# Altium footprint library qudong.PcbLib: 25 footprints (part 1 of 2)
Each footprint in its own frame and in the unit in brackets; x right, y up, seen from the top. Pads: shape width x height; smd on the part's side, far side on the other; paste and mask are expansions set on the pad; w line width, h text height; cw(c..) or ccw(c..) is an arc to the next point about the centre after c.
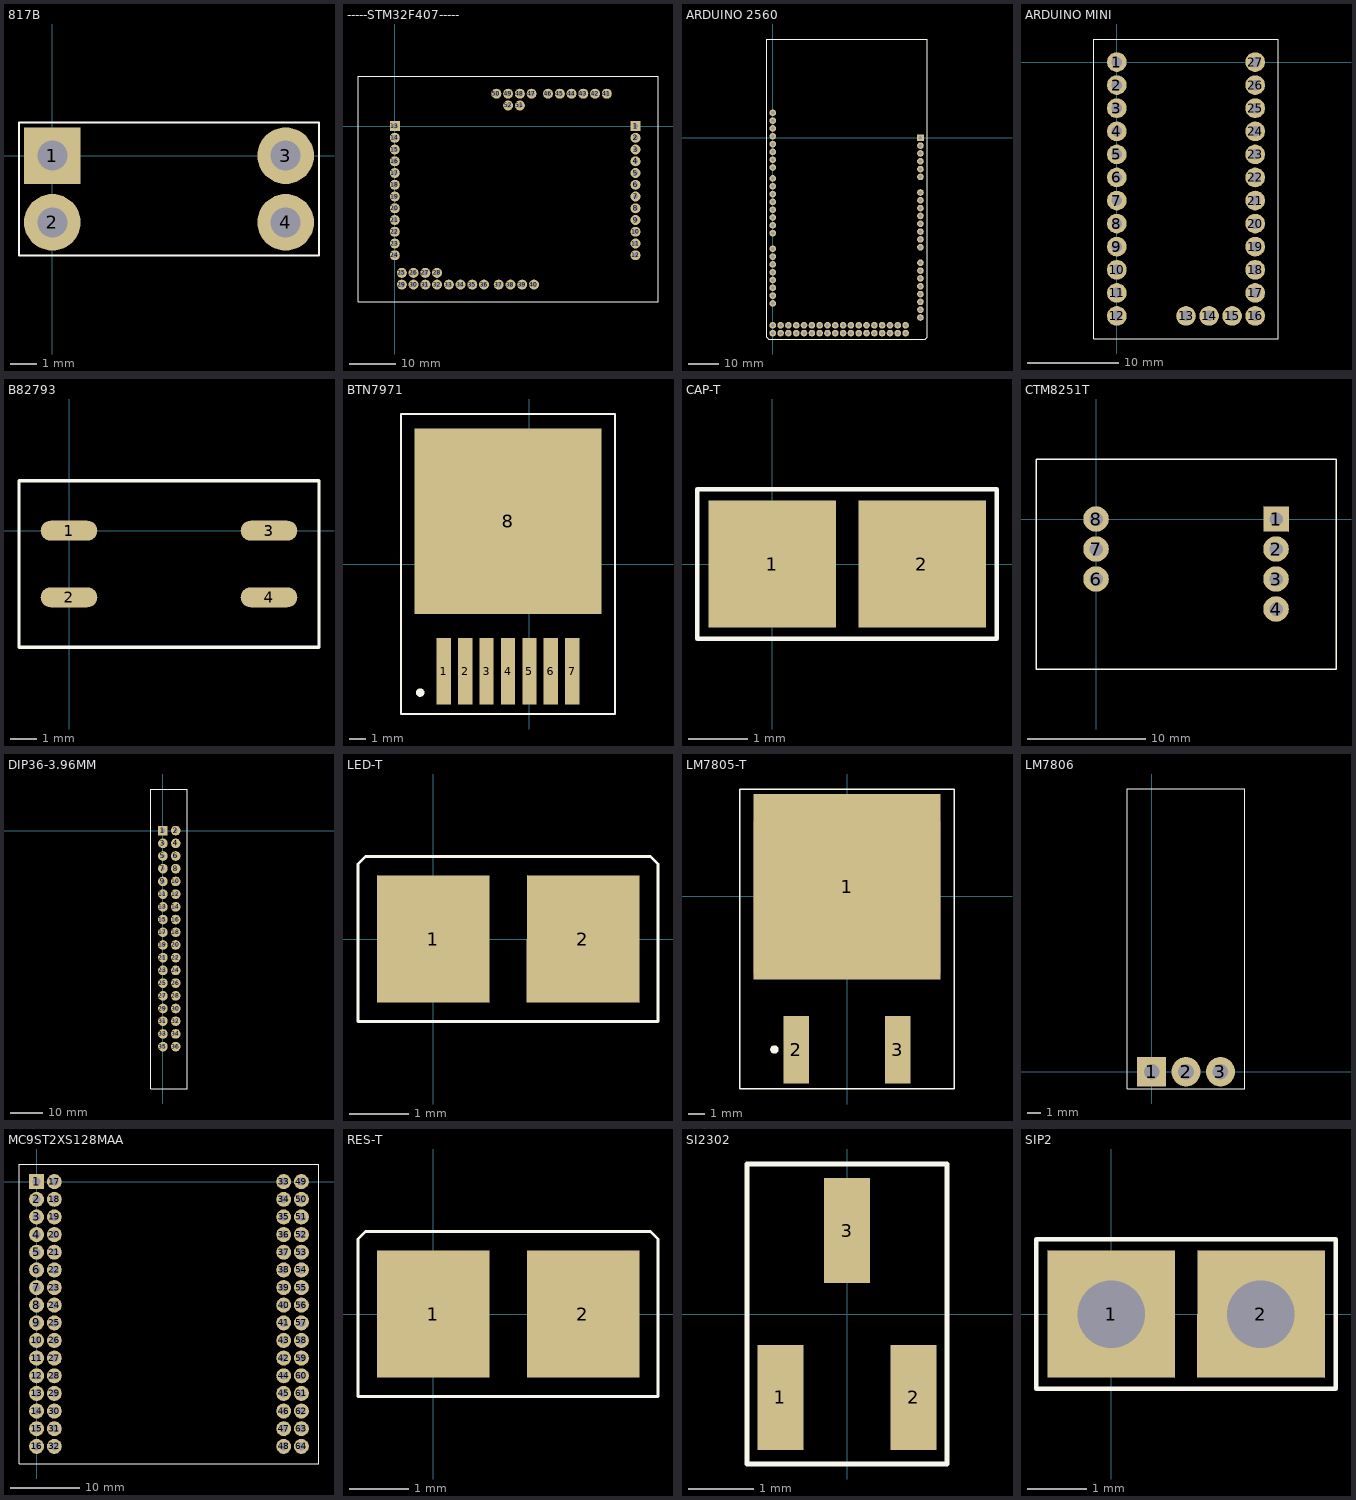
[diagram p0: the footprints below, top view; thin cyan lines are the x and y axes]

## 817B [mil]
pads (4):
  rect 85x85 hole 45: 1(0,0)
  round 85 hole 45: 2(0,-100) 3(350,0) 4(350,-100)
Top Overlay:
  lines w3: -50,-150 -50,50 400,50 400,-150 -50,-150

## -----STM32F407----- [mil]
pads (52):
  rect 85x85 hole 45: 1(2050,0) 13(0,0)
  round 85 hole 45: 2(2050,-100) 3(2050,-200) 4(2050,-300) 5(2050,-400) 6(2050,-500) 7(2050,-600) 8(2050,-700) 9(2050,-800) 10(2050,-900) 11(2050,-1000) 12(2050,-1100) 14(0,-100) 15(0,-200) 16(0,-300) 17(0,-400) 18(0,-500) 19(0,-600) 20(0,-700) 21(0,-800) 22(0,-900) 23(0,-1000) 24(0,-1100) 25(60,-1250) 26(160,-1250) 27(260,-1250) 28(360,-1250) 29(60,-1350) 30(160,-1350) 31(260,-1350) 32(360,-1350) 33(460,-1350) 34(560,-1350) 35(660,-1350) 36(760,-1350) 37(885,-1350) 38(985,-1350) 39(1085,-1350) 40(1185,-1350) 41(1805,275) 42(1705,275) 43(1605,275) 44(1505,275) 45(1405,275) 46(1305,275) 47(1165,275) 48(1065,275) 49(965,275) 50(865,275) 51(1065,175) 52(965,175)
Top Overlay:
  lines w5: -313,-1495 2241,-1495 2241,423 3,423 -313,423 -313,-1495

## ARDUINO 2560 [mil]
pads (82):
  rect 85x85 hole 45: 1(1890,0)
  round 85 hole 45: 2(1890,-100) 3(1890,-200) 4(1890,-300) 5(1890,-400) 6(1890,-500) 7(1890,-700) 8(1890,-800) 9(1890,-900) 10(1890,-1000) 11(1890,-1100) 12(1890,-1200) 13(1890,-1300) 14(1890,-1400) 15(1890,-1600) 16(1890,-1700) 17(1890,-1800) 18(1890,-1900) 19(1890,-2000) 20(1890,-2100) 21(1890,-2200) 22(1890,-2300) 23(100,-2400) 24(100,-2500) 25(200,-2400) 26(200,-2500) 27(300,-2400) 28(300,-2500) 29(400,-2400) 30(400,-2500) 31(500,-2400) 32(500,-2500) 33(600,-2400) 34(600,-2500) 35(700,-2400) 36(700,-2500) 37(800,-2400) 38(800,-2500) 39(900,-2400) 40(900,-2500) 41(1000,-2400) 42(1000,-2500) 43(1100,-2400) 44(1100,-2500) 45(1200,-2400) 46(1200,-2500) 47(1300,-2400) 48(1300,-2500) 49(1400,-2400) 50(1400,-2500) 51(1500,-2400) 52(1500,-2500) 53(1600,-2400) 54(1600,-2500) 55(1700,-2400) 56(1700,-2500) 57(0,-2120) 58(0,-2020) 59(0,-1920) 60(0,-1820) 61(0,-1720) 62(0,-1620) 63(0,-1520) 64(0,-1420) 65(0,-1220) 66(0,-1120) 67(0,-1020) 68(0,-920) 69(0,-820) 70(0,-720) 71(0,-620) 72(0,-520) 73(0,-380) 74(0,-280) 75(0,-180) 76(0,-80) 77(0,20) 78(0,120) 79(0,220) 80(0,320) 81(0,-2500) 82(0,-2400)
Top Overlay:
  lines w3: -75,-2550 -75,1265 -50,1265 0,1265 1975,1265 1975,-2525 1975,-2550 1950,-2575 1925,-2575 -50,-2575 -75,-2550

## ARDUINO MINI [mil]
pads (27):
  round 85 hole 45: 1(0,0) 2(0,-100) 3(0,-200) 4(0,-300) 5(0,-400) 6(0,-500) 7(0,-600) 8(0,-700) 9(0,-800) 10(0,-900) 11(0,-1000) 12(0,-1100) 13(300,-1100) 14(400,-1100) 15(500,-1100) 16(600,-1100) 17(600,-1000) 18(600,-900) 19(600,-800) 20(600,-700) 21(600,-600) 22(600,-500) 23(600,-400) 24(600,-300) 25(600,-200) 26(600,-100) 27(600,0)
Top Overlay:
  lines w3: -100,-1200 700,-1200 700,100 -100,100 -100,-1200

## B82793 [mil]
pads (4):
  oval 85x30 smd: 1(0,0) 2(0,-100) 3(300,0) 4(300,-100)
Top Overlay:
  lines w5: -75,-175 375,-175 375,75 -75,75 -75,-175

## BTN7971 [mm] "TO, 8-Pads, Body 9.5x11.0mm (max), IPC Medium Density"
height 5
pads (8):
  rect 0.85x3.95 smd: 1(-5.08,-6.35) 2(-3.81,-6.35) 3(-2.54,-6.35) 4(-1.27,-6.35) 5(0,-6.35) 6(1.27,-6.35) 7(2.54,-6.35)
  rect 11.1x11 smd: 8(-1.27,2.54)
Top Overlay:
  circle w0.25: c-6.475,-7.62 r0.125
  lines w0.127: -7.62,-8.89 5.08,-8.89 5.08,8.89 -7.62,8.89 -7.62,-8.89
Mechanical 15:
  lines w0.1: -1.77,0 -0.77,0 ; -1.27,-0.5 -1.27,0.5

## CAP-T [mil]
pads (2):
  rect 85x85 smd: 1(0,0) 2(100,0)
Top Overlay:
  lines w3: -50,-50 150,-50 150,50 -50,50 -50,-50

## CTM8251T [mil]
pads (7):
  rect 85x85 hole 45: 1(600,0)
  round 85 hole 45: 2(600,-100) 3(600,-200) 4(600,-300) 6(0,-200) 7(0,-100) 8(0,0)
Top Overlay:
  lines w5: -200,-500 -200,0 -200,200 800,200 800,-500 -200,-500

## DIP36-3.96MM [mm]
pads (36):
  rect 3x3 hole 1.2: 1(0,0)
  round 3 hole 1.2: 2(4,0) 3(0,-3.96) 4(4,-3.96) 5(0,-7.92) 6(4,-7.92) 7(0,-11.88) 8(4,-11.88) 9(0,-15.84) 10(4,-15.84) 11(0,-19.8) 12(4,-19.8) 13(0,-23.76) 14(4,-23.76) 15(0,-27.72) 16(4,-27.72) 17(0,-31.68) 18(4,-31.68) 19(0,-35.64) 20(4,-35.64) 21(0,-39.6) 22(4,-39.6) 23(0,-43.56) 24(4,-43.56) 25(0,-47.52) 26(4,-47.52) 27(0,-51.48) 28(4,-51.48) 29(0,-55.44) 30(4,-55.44) 31(0,-59.4) 32(4,-59.4) 33(0,-63.36) 34(4,-63.36) 35(0,-67.32) 36(4,-67.32)
Top Overlay:
  lines w0.127: -3.81,-80.518 7.62,-80.518 7.62,-66.04 7.62,0 7.62,12.954 -3.81,12.954 -3.81,2.54 -3.81,-67.31 -3.81,-80.518

## LED-T [mil]
pads (2):
  rect 75x85 smd: 1(0,0) 2(100,0)
Top Overlay:
  lines w2: -50,-55 -45,-55 145,-55 150,-55 150,-50 150,50 145,55 -45,55 -50,50 -50,-50 -50,-55

## LM7805-T [mm] "TO, 3-Pads, Body 9.0x11.0mm (max), IPC Medium Density"
height 5
pads (3):
  rect 11.1x11 smd: 1(0,0.56)
  rect 1.5x4 smd: 2(-3,-9.09) 3(3,-9.09)
Top Overlay:
  circle w0.25: c-4.3,-9.09 r0.125
  lines w0.076: -6.35,-11.43 6.35,-11.43 6.35,6.35 -6.35,6.35 -6.35,-11.43
Mechanical 13:
  lines w0.1: -5.5,-4.59 -5.5,4.41 5.5,4.41 5.5,-4.59 -5.5,-4.59
Mechanical 15:
  lines w0.1: -0.5,-2.54 0.5,-2.54 ; 0,-3.04 0,-2.04
3D body: height 5, standoff 0, extent -5.5,-4.59 5.5,4.41

## LM7806 [mil]
pads (3):
  rect 85x85 hole 45: 1(0,0)
  round 85 hole 45: 2(100,0) 3(200,0)
Top Overlay:
  lines w3: -70,-50 -70,50 -70,570 -70,820 270,820 270,-50 -70,-50

## MC9ST2XS128MAA [mil]
pads (64):
  rect 85x85 hole 45: 1(0,0)
  round 85 hole 45: 2(0,-100) 3(0,-200) 4(0,-300) 5(0,-400) 6(0,-500) 7(0,-600) 8(0,-700) 9(0,-800) 10(0,-900) 11(0,-1000) 12(0,-1100) 13(0,-1200) 14(0,-1300) 15(0,-1400) 16(0,-1500) 17(100,0) 18(100,-100) 19(100,-200) 20(100,-300) 21(100,-400) 22(100,-500) 23(100,-600) 24(100,-700) 25(100,-800) 26(100,-900) 27(100,-1000) 28(100,-1100) 29(100,-1200) 30(100,-1300) 31(100,-1400) 32(100,-1500) 33(1400,0) 34(1400,-100) 35(1400,-200) 36(1400,-300) 37(1400,-400) 38(1400,-500) 39(1400,-600) 40(1400,-700) 41(1400,-800) 42(1400,-1000) 43(1400,-900) 44(1400,-1100) 45(1400,-1200) 46(1400,-1300) 47(1400,-1400) 48(1400,-1500) 49(1500,0) 50(1500,-100) 51(1500,-200) 52(1500,-300) 53(1500,-400) 54(1500,-500) 55(1500,-600) 56(1500,-700) 57(1500,-800) 58(1500,-900) 59(1500,-1000) 60(1500,-1100) 61(1500,-1200) 62(1500,-1300) 63(1500,-1400) 64(1500,-1500)
Top Overlay:
  lines w3: -100,-1600 1600,-1600 1600,100 -100,100 -100,-1600

## RES-T [mil]
pads (2):
  rect 75x85 smd: 1(0,0) 2(100,0)
Top Overlay:
  lines w2: -50,-55 -50,-50 -50,50 -45,55 145,55 150,50 150,-50 150,-55 145,-55 -45,-55 -50,-55

## SI2302 [mm] "SOT23, 3-Leads, Body 3.0x2.6mm (max), Pitch 0.90mm, IPC Medium Density"
height 1.1
pads (3):
  rect 0.7x1.6 smd: 1(-1.016,-1.27) 2(1.016,-1.27) 3(0,1.27)
Top Overlay:
  lines w0.076: -1.524,-2.286 -1.524,2.286 -1.27,2.286 1.524,2.286 1.524,-2.286 -1.524,-2.286

## SIP2 [mil]
pads (2):
  rect 85x85 hole 45: 1(0,0) 2(100,0)
Top Overlay:
  lines w3: -50,-50 150,-50 150,50 -50,50 -50,-50